# Altium integrated library Integrated_Library.IntLib: 6 symbols
Pins are listed as number, name and electrical type; pins without a type are passive.

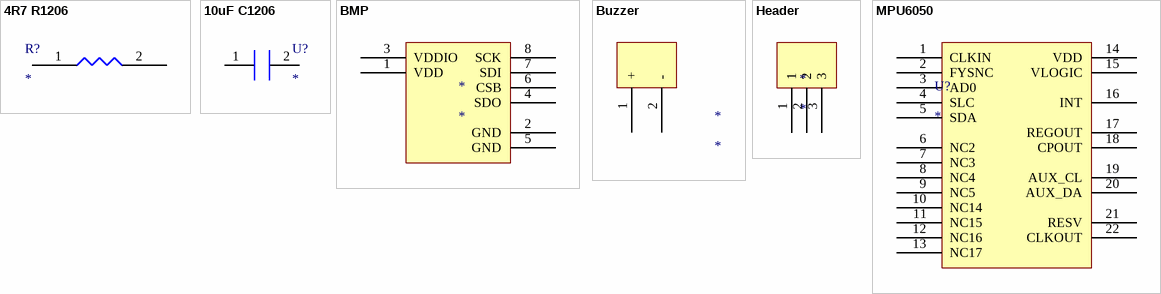
[diagram p0: symbols 4R7 R1206 to MPU6050]

## 4R7 R1206
designator R?
4R7 R1206
footprint 4R7 R1206
pins: 1, 2

## 10uF C1206
designator U?
10uF C1206
pins: 1, 2

## BMP
designator *
pins: 1 VDD, 2 GND, 3 VDDIO, 4 SDO, 5 GND, 6 CSB, 7 SDI, 8 SCK

## Buzzer
designator *
pins: 1 +, 2 -

## Header
designator *
pins: 1, 2, 3

## MPU6050
designator U?
MPU-6050
footprint MPU6050
pins: 1 CLKIN, 2 FYSNC, 3 AD0, 4 SLC, 5 SDA, 6 NC2, 7 NC3, 8 NC4, 9 NC5, 10 NC14, 11 NC15, 12 NC16, 13 NC17, 14 VDD, 15 VLOGIC, 16 INT, 17 REGOUT, 18 CPOUT, 19 AUX_CL, 20 AUX_DA, 21 RESV, 22 CLKOUT